# Altium integrated library Inductors.IntLib: 2 symbols
Pins are listed as number, name and electrical type; pins without a type are passive.

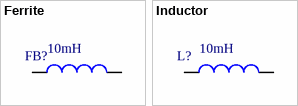
[diagram p0: symbols Ferrite to Inductor]

## Ferrite
designator FB?  value 10mH
Ferrite Beads; Impedance: 33mOhms; MaximumDCCurrent: 1A
footprint IND_1005
footprint IND_1005-L
footprint IND_1005-M
footprint IND_1608
footprint IND_1608-L
footprint IND_1608-M
footprint IND_2012
footprint IND_2012-L
footprint IND_2012-M
pins: 1, 2

## Inductor
designator L?  value 10mH
Fixed Inductors; Impedance: 33mOhms; MaximumDCCurrent: 1A
footprint INDWW_3MMSQ
footprint INDWW_4MMSQ
footprint INDWW_5MMSQ
footprint INDWW_2016
footprint INDWW_2520
footprint INDWW_3216
footprint INDWW_3225
footprint INDWW_6045
pins: 1, 2